# Altium integrated library LEDs.IntLib: 6 symbols
Pins are listed as number, name and electrical type; pins without a type are passive.

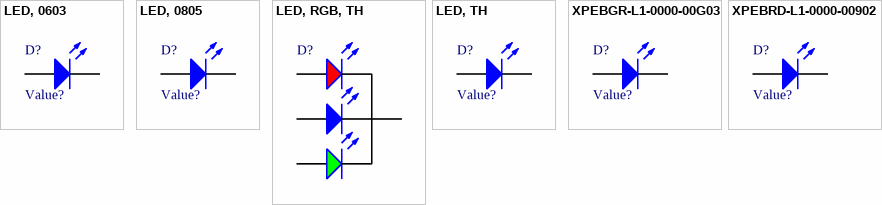
[diagram p0: symbols LED, 0603 to XPEBRD-L1-0000-00902]

## LED, 0603
designator D?, comment Value?
LED, 0603, SMD; TargetLibrary: RITRacing-LED's; Publisher: T.Tallo; Published: 22Oct2016; Status: Active; Value: Value?
footprint LED, 0603 (Generic 0603 SMD)
pins: 1 A, 2 K

## LED, 0805
designator D?, comment Value?
LED, 0805, SMD; TargetLibrary: RITRacing-LED's; Publisher: T.Tallo; Published: 22Oct2016; Status: Active; Value: Value?
footprint LED, 0603 (Generic 0603 SMD)
pins: 1 A, 2 K

## LED, RGB, TH
designator D?, comment RBG  (value not drawn)
LED, 5.9mm, TH; TargetLibrary: RITRacing-LED's; Publisher: T.Tallo; Published: 22Oct2016; Status: Active; Value: RBG
footprint LED, RGB, TH (Through Hole LED)
pins: 1 Red Anode, 2 Cathode, 3 Blue Anode, 4 Green Anode

## LED, TH
designator D?, comment Value?
LED, 5mm, TH; TargetLibrary: RITRacing-LED's; Publisher: T.Tallo; Published: 22Oct2016; Status: Active; Value: Value?
footprint LED, TH (Through Hole LED)
pins: 1 A, 2 K

## XPEBGR-L1-0000-00G03
designator D?, comment Value?
Cree Green LED, Surface Mount, 3W; TargetLibrary: RITRacing-LED's; Publisher: T.Tallo; Published: 22Oct2016; Status: Active; Value: Value?
footprint XP-E2 (Cree XP-E2 LED Package)
pins: 1 A, 2 K

## XPEBRD-L1-0000-00902
designator D?, comment Value?
Cree RED LED, Surface Mount, 3W; TargetLibrary: RITRacing-LED's; Publisher: T.Tallo; Published: 22Oct2016; Status: Active; Value: Value?
footprint XP-E2 (Cree XP-E2 LED Package)
pins: 1 A, 2 K